# EAGLE library part FH34SRJ-18S-0.5SH_50_ (library FH34SRJ-18S-0.5SH_50_)
FFC & FPC Connectors 18P SMT HORIZ ZIF AU 1MM HGHT .5MM PITCH Source: Datasheet <https://componentsearchengine.com/Datasheets/2/FH34SRJ-18S-0.5SH(50).pdf>
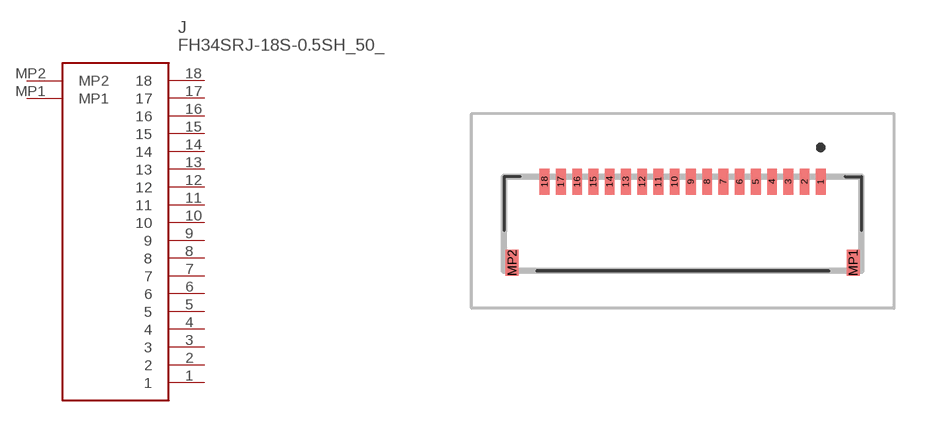
[diagram p0: symbol with the pads of FH34SRJ18S05SH50; footprint FH34SRJ18S05SH50]

Designator prefix J

## FH34SRJ-18S-0.5SH_50_ (Description: FFC & FPC Connectors 18P SMT HORIZ ZIF AU 1MM HGHT .5MM PITCH; Height: 1.1mm; Manufacturer_Name: Hirose; Manufacturer_Part_Number: FH34SRJ-18S-0.5SH(50); Mouser_Part_Number: 798-FH34SRJ18S05SH50; Mouser_Price-Stock: https://www.mouser.co.uk/ProductDetail/Hirose-Connector/FH34SRJ-18S-0.5SH50?qs=vnk2wBG9e14baKy2cefMsg%3D%3D)  [FH34SRJ18S05SH50]
1  1
2  2
3  3
4  4
5  5
6  6
7  7
8  8
9  9
10  10
11  11
12  12
13  13
14  14
15  15
16  16
17  17
18  18
MP1  MP1
MP2  MP2

## Footprint FH34SRJ18S05SH50 (pad centres in mm)
FH34SRJ-18S-0.5SH(50)-1
smd 0.3 x 0.8: 1 4.25,1.3; 2 3.75,1.3; 3 3.25,1.3; 4 2.75,1.3; 5 2.25,1.3; 6 1.75,1.3; 7 1.25,1.3; 8 0.75,1.3; 9 0.25,1.3; 10 -0.25,1.3; 11 -0.75,1.3; 12 -1.25,1.3; 13 -1.75,1.3; 14 -2.25,1.3; 15 -2.75,1.3; 16 -3.25,1.3; 17 -3.75,1.3; 18 -4.25,1.3
smd 0.4 x 0.8: MP1 5.25,-1.2; MP2 -5.25,-1.2